# Altium integrated library 1-1734507-8.IntLib: 1 symbol
Pins are listed as number, name and electrical type; pins without a type are passive.

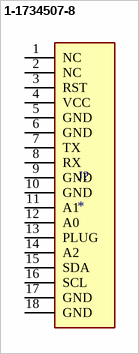
[diagram p0: symbol 1-1734507-8]

## 1-1734507-8
designator J?
MP: 1-1734507-8; Package: None; Price: None; Value: *; Availability: Unavailable
footprint TE_1-1734507-8
pins: 1 NC, 2 NC, 3 RST, 4 VCC, 5 GND, 6 GND, 7 TX, 8 RX, 9 GND, 10 GND, 11 A1, 12 A0, 13 PLUG, 14 A2, 15 SDA, 16 SCL, 17 GND, 18 GND